# Altium integrated library EEEFPC220UAR.IntLib: 1 symbol
Pins are listed as number, name and electrical type; pins without a type are passive.

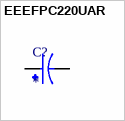
[diagram p0: symbol EEEFPC220UAR]

## EEEFPC220UAR
designator C?
22ÂµF 16V Aluminum Electrolytic Capacitors Radial, Can - SMD 850mOhm @ 100kHz 2000 Hrs @ 105Â°C; MF: Panasonic; MP: EEEFPC220UAR; Check_prices: https://www.snapeda.com/parts/EEEFPC220UAR/Panasonic/view-part/?ref=eda; Purchase-URL: https://pricing.snapeda.com/search/part/EEEFPC220UAR/?ref=eda; SnapEDA_Link: https://www.snapeda.com/parts/EEEFPC220UAR/Panasonic/view-part/?ref=snap; Package: RADIAL-2 Panasonic; Value: *; Digi-Key_Part_Number: PCE4529TR-ND
footprint CAP_EEEFPC220UAR
pins: 1, 2